# Altium footprint library DFN.PcbLib: 1 footprints
Each footprint in its own frame and in the unit in brackets; x right, y up, seen from the top. Pads: shape width x height; smd on the part's side, far side on the other; paste and mask are expansions set on the pad; w line width, h text height; cw(c..) or ccw(c..) is an arc to the next point about the centre after c.
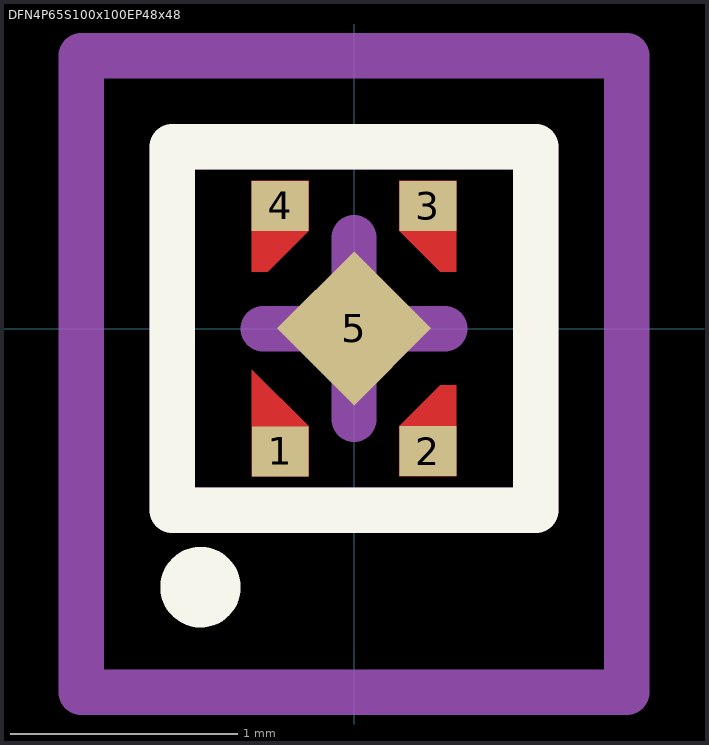
[diagram p0: the footprint, top view; thin cyan lines are the x and y axes]

## DFN4P65S100x100EP48x48 [mm] "DFN, 4-Leads, Body 1.00x1.00mm, Pitch 0.65mm, Thermal Pad 0.48x0.48mm, IPC Medium Density"
pads (5):
  rect 0.25x0.22 smd paste+0 mask+0.102: 1(-0.325,-0.54) 2(0.325,-0.54) 3(0.325,0.54) 4(-0.325,0.54)
  rect 0.48x0.48 smd rot 135: 5(0,0)
Top Layer:
  region: -0.45,-0.65 -0.45,-0.18 -0.2,-0.43 -0.2,-0.65
  region: 0.45,-0.65 0.45,-0.25 0.38,-0.25 0.2,-0.43 0.2,-0.65
  region: 0.45,0.65 0.45,0.25 0.38,0.25 0.2,0.43 0.2,0.65
  region: -0.45,0.65 -0.45,0.25 -0.38,0.25 -0.2,0.43 -0.2,0.65
Top Overlay:
  circle w0.254: c-0.676,-1.138 r0.05
  lines w0.2: -0.8,-0.8 -0.8,0.35 -0.8,0.8 0.8,0.8 0.8,-0.8 -0.8,-0.8
Mechanical 13:
  lines w0.2: -0.8,-0.8 -0.8,0.8 0.8,0.8 0.8,-0.8 -0.8,-0.8
Mechanical 15:
  lines w0.2: -0.4,0 0.4,0 0,0 0,0.4 0,-0.4 ; -1.2,-1.6 -0.8,-1.6 1.2,-1.6 1.2,1.2 -1.2,1.2 -1.2,-1.6
3D body "DFN65P100X60-4N.step": height 0.6, standoff 0, extent -0.525,-0.525 0.525,0.525